# Altium integrated library TI_Logic_Specialty_Logic.IntLib: 2504 symbols (part 27 of 81)
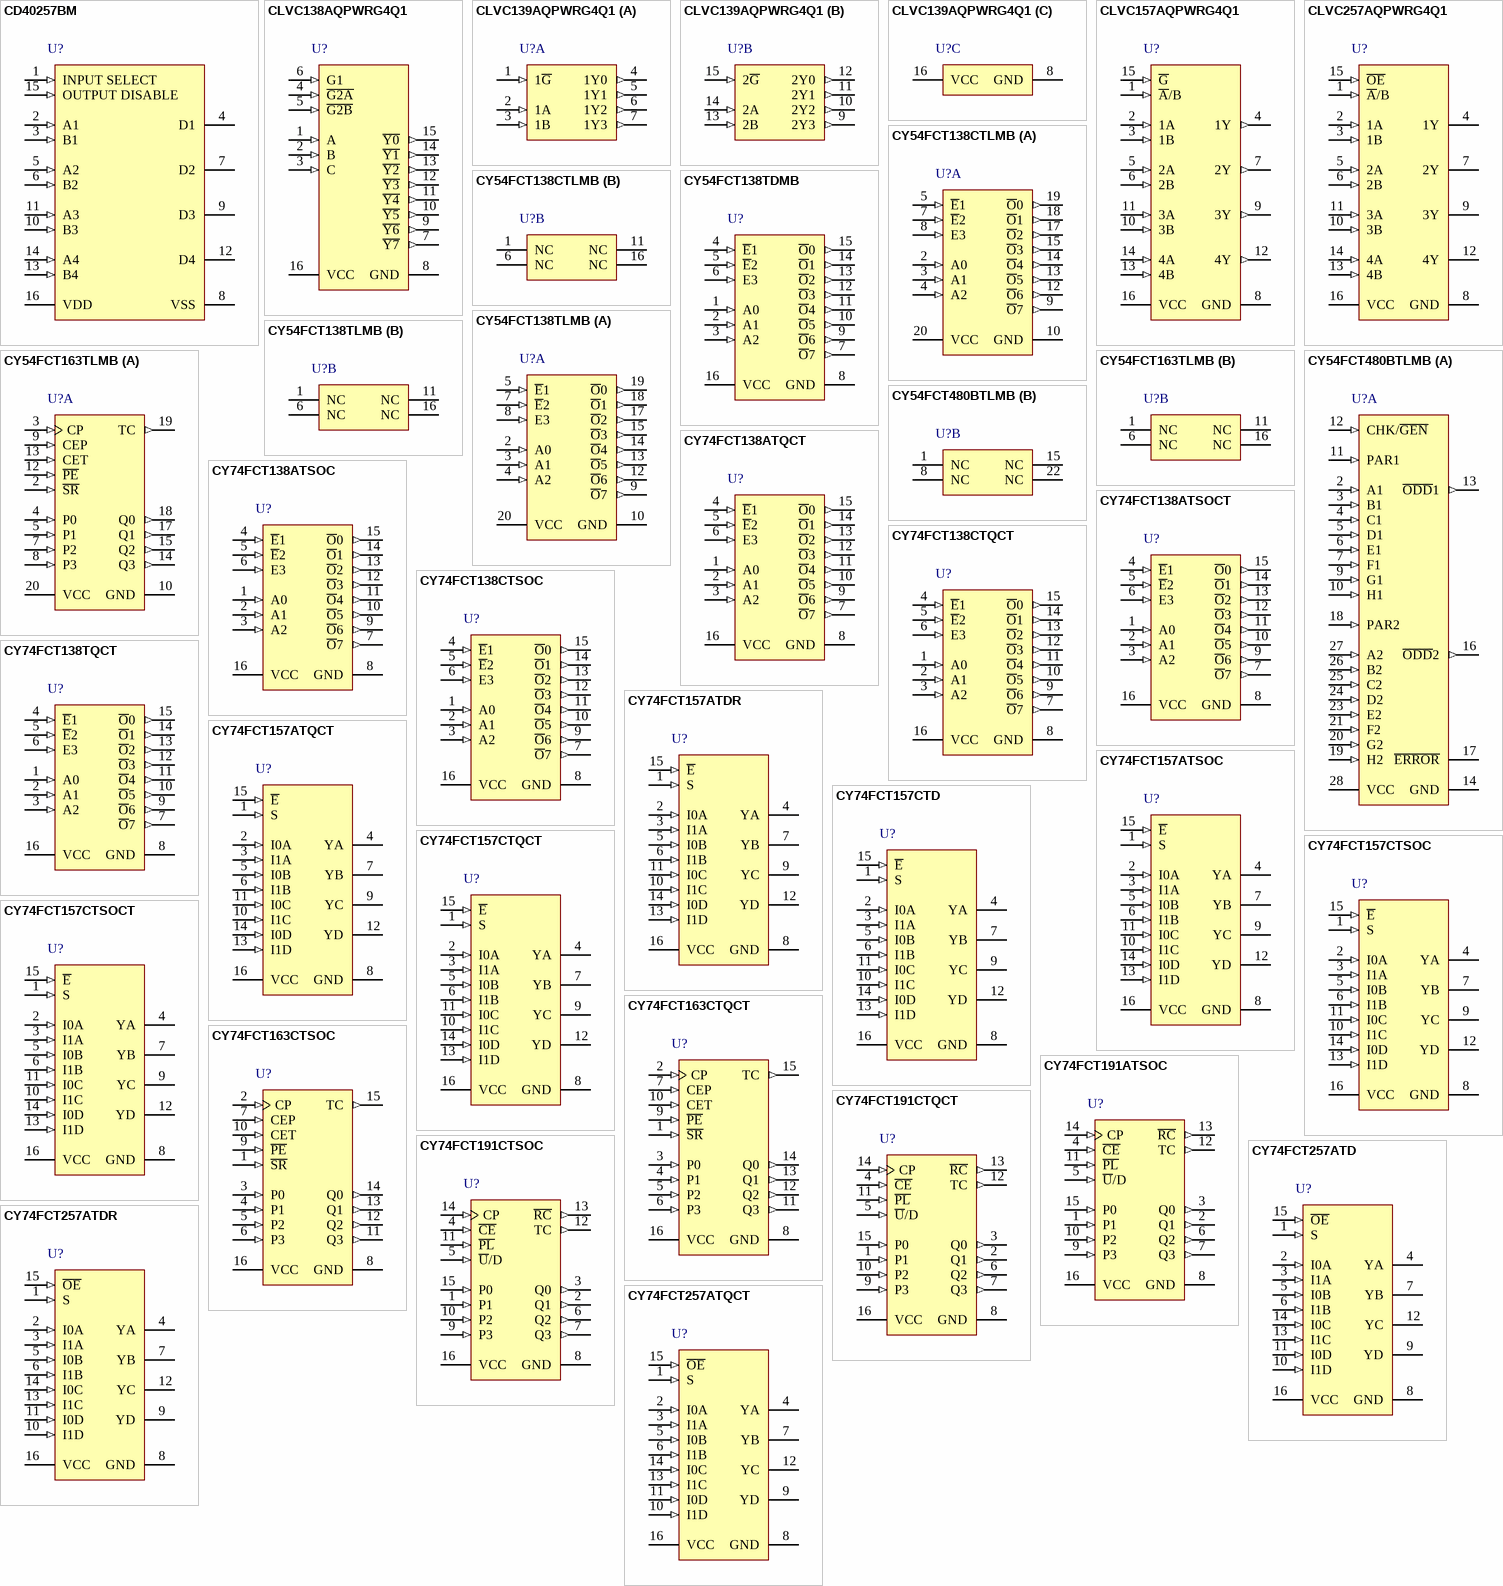
[diagram p130: symbols CD40257BM to CY74FCT257ATQCT]

## CY74FCT157CTSOCT
designator U?
Quad 2-Input Multiplexer, DW0016A, LARGE T&R; Generic Part Number: CY74FCT157T; Manufacturer: Texas Instruments; PartNumber: CY74FCT157CTSOCT; VCC(Min)(V): 4.75; VCC(Max)(V): 5.25; Output Type: CMOS; ICC @ Nom Voltage(Max)(mA): 0.2; Input Type: TTL; Bits(#): 2; F @ Nom Voltage(Max)(Mhz): 70; Configuration: 2：1; Channels(#): 4; Rating: Catalog; Technology Family: FCT; Voltage(Nom)(V): 5; Schmitt Trigger: No; Output Drive (IOL/IOH)(Max)(mA): 64/-32; tpd @ Nom Voltage(Max)(ns): 4.3; DatasheetVersion: SCCS014B; PackageReference: DW0016A; Supplier 1: Mouser; Supplier Part Number 1: 595-CY74FCT157CTSOCT; Supplier 2: Digi-Key; Supplier Part Number 2: 296-31625-2-ND; Supplier 3: Digi-Key; Supplier Part Number 3: 296-31625-1-ND; Supplier 4: Digi-Key; Supplier Part Number 4: 296-31625-6-ND; Operating Temperature Range(C): -40 to 85; Code_JEDEC: MS-013 variation AA; ComponentLink1Description: Manufacturer URL; ComponentLink1URL: http://www.ti.com/; ComponentLink2Description: Datasheet; ComponentLink2URL: http://www.ti.com/lit/ds/symlink/cy74fct157t.pdf; ComponentLink3Description: Package Specification; ComponentLink3URL: http://www.ti.com/lit/ml/msoi003g/msoi003g.pdf
footprint DW0016A_N (SOIC, 16-Leads, Body 10.5x7.6mm, Pitch 1.27mm, IPC Medium Density)
footprint DW0016A_M (SOIC, 16-Leads, Body 10.5x7.6mm, Pitch 1.27mm, IPC Low Density)
footprint DW0016A_L (SOIC, 16-Leads, Body 10.5x7.6mm, Pitch 1.27mm, IPC High Density)
pins: 1 S (in) "Common select input", 2 I0A (in) "Data inputs from source 0", 3 I1A (in) "Data inputs from source 1", 4 YA (hiz) "Noninverted outputs", 5 I0B (in) "Data inputs from source 0", 6 I1B (in) "Data inputs from source 1", 7 YB (hiz) "Noninverted outputs", 8 GND (power), 9 YC (hiz) "Noninverted outputs", 10 I1C (in) "Data inputs from source 1", 11 I0C (in) "Data inputs from source 0", 12 YD (hiz) "Noninverted outputs", 13 I1D (in) "Data inputs from source 1", 14 I0D (in) "Data inputs from source 0", 15 ~{E} (in) "Enable inputs (active low)", 16 VCC (power)

## CY74FCT163CTQCT
designator U?
Synchronous 4-Bit Binary Counter, DBQ0016A, LARGE T&R; Generic Part Number: CY74FCT163T; Manufacturer: Texas Instruments; PartNumber: CY74FCT163CTQCT; VCC(Min)(V): 4.75; VCC(Max)(V): 5.25; Output Type: CMOS; ICC @ Nom Voltage(Max)(mA): 0.2; Input Type: TTL; Bits(#): 4; F @ Nom Voltage(Max)(Mhz): 70; Rating: Catalog; Technology Family: FCT; Voltage(Nom)(V): 5; Schmitt Trigger: No; Output Drive (IOL/IOH)(Max)(mA): 64/-32; tpd @ Nom Voltage(Max)(ns): 5.8; DatasheetVersion: SCCS015A; PackageReference: DBQ0016A; Supplier 1: Mouser; Supplier Part Number 1: 595-CY74FCT163CTQCT; Supplier 2: Digi-Key; Supplier Part Number 2: 296-14565-2-ND; Supplier 3: Digi-Key; Supplier Part Number 3: 296-14565-1-ND; Supplier 4: Digi-Key; Supplier Part Number 4: 296-14565-6-ND; Operating Temperature Range(C): -40 to 85; ComponentLink1Description: Manufacturer URL; ComponentLink1URL: http://www.ti.com/; ComponentLink2Description: Datasheet; ComponentLink2URL: http://www.ti.com/lit/ds/symlink/cy74fct163t.pdf; ComponentLink3Description: Package Specification; ComponentLink3URL: http://www.ti.com/lit/ml/msoi004g/msoi004g.pdf
footprint DBQ0016A_N (SOP, 16-Leads, Body 5x4mm, Pitch 0.635mm, IPC Medium Density)
footprint DBQ0016A_M (SOP, 16-Leads, Body 5x4mm, Pitch 0.635mm, IPC Low Density)
footprint DBQ0016A_L (SOP, 16-Leads, Body 5x4mm, Pitch 0.635mm, IPC High Density)
pins: 1 ~{SR} (in) "Synchronous-reset input (active low)", 2 CP (in) "Clock pulse input (active rising edge)", 3 P0 (in) "Parallel data inputs", 4 P1 (in) "Parallel data inputs", 5 P2 (in) "Parallel data inputs", 6 P3 (in) "Parallel data inputs", 7 CEP (in) "Count-enable parallel input", 8 GND (power), 9 ~{PE} (in) "Parallel-enable input (active low)", 10 CET (in) "Count-enable trickle input", 11 Q3 (out) "Flip-flop outputs", 12 Q2 (out) "Flip-flop outputs", 13 Q1 (out) "Flip-flop outputs", 14 Q0 (out) "Flip-flop outputs", 15 TC (out) "Terminal-count output", 16 VCC (power)

## CY74FCT163CTSOC
designator U?
Synchronous 4-Bit Binary Counter, DW0016A, TUBE; Generic Part Number: CY74FCT163T; Manufacturer: Texas Instruments; PartNumber: CY74FCT163CTSOC; VCC(Min)(V): 4.75; VCC(Max)(V): 5.25; Output Type: CMOS; ICC @ Nom Voltage(Max)(mA): 0.2; Input Type: TTL; Bits(#): 4; F @ Nom Voltage(Max)(Mhz): 70; Rating: Catalog; Technology Family: FCT; Voltage(Nom)(V): 5; Schmitt Trigger: No; Output Drive (IOL/IOH)(Max)(mA): 64/-32; tpd @ Nom Voltage(Max)(ns): 5.8; DatasheetVersion: SCCS015A; PackageReference: DW0016A; Supplier 1: Mouser; Supplier Part Number 1: 595-CY74FCT163CTSOC; Supplier 2: Digi-Key; Supplier Part Number 2: 296-33200-5-ND; Operating Temperature Range(C): -40 to 85; Code_JEDEC: MS-013 variation AA; ComponentLink1Description: Manufacturer URL; ComponentLink1URL: http://www.ti.com/; ComponentLink2Description: Datasheet; ComponentLink2URL: http://www.ti.com/lit/ds/symlink/cy74fct163t.pdf; ComponentLink3Description: Package Specification; ComponentLink3URL: http://www.ti.com/lit/ml/msoi003g/msoi003g.pdf
footprint DW0016A_N (SOIC, 16-Leads, Body 10.5x7.6mm, Pitch 1.27mm, IPC Medium Density)
footprint DW0016A_M (SOIC, 16-Leads, Body 10.5x7.6mm, Pitch 1.27mm, IPC Low Density)
footprint DW0016A_L (SOIC, 16-Leads, Body 10.5x7.6mm, Pitch 1.27mm, IPC High Density)
pins: 1 ~{SR} (in) "Synchronous-reset input (active low)", 2 CP (in) "Clock pulse input (active rising edge)", 3 P0 (in) "Parallel data inputs", 4 P1 (in) "Parallel data inputs", 5 P2 (in) "Parallel data inputs", 6 P3 (in) "Parallel data inputs", 7 CEP (in) "Count-enable parallel input", 8 GND (power), 9 ~{PE} (in) "Parallel-enable input (active low)", 10 CET (in) "Count-enable trickle input", 11 Q3 (out) "Flip-flop outputs", 12 Q2 (out) "Flip-flop outputs", 13 Q1 (out) "Flip-flop outputs", 14 Q0 (out) "Flip-flop outputs", 15 TC (out) "Terminal-count output", 16 VCC (power)

## CY74FCT191ATSOC
designator U?
Presettable Synchronous 4-Bit Up/Down Binary Counters, DW0016A, TUBE; Generic Part Number: CY74FCT191T; Manufacturer: Texas Instruments; PartNumber: CY74FCT191ATSOC; VCC(Min)(V): 4.75; VCC(Max)(V): 5.25; Output Type: CMOS; ICC @ Nom Voltage(Max)(mA): 0.2; Input Type: TTL; Bits(#): 4; F @ Nom Voltage(Max)(Mhz): 70; Rating: Catalog; Technology Family: FCT; Voltage(Nom)(V): 5; Schmitt Trigger: No; Output Drive (IOL/IOH)(Max)(mA): 64/-32; tpd @ Nom Voltage(Max)(ns): 7.8; DatasheetVersion: SCCS016A; PackageReference: DW0016A; Supplier 1: Mouser; Supplier Part Number 1: 595-CY74FCT191ATSOC; Supplier 2: Digi-Key; Supplier Part Number 2: 296-33210-5-ND; Operating Temperature Range(C): -40 to 85; Code_JEDEC: MS-013 variation AA; ComponentLink1Description: Manufacturer URL; ComponentLink1URL: http://www.ti.com/; ComponentLink2Description: Datasheet; ComponentLink2URL: http://www.ti.com/lit/ds/symlink/cy74fct191t.pdf; ComponentLink3Description: Package Specification; ComponentLink3URL: http://www.ti.com/lit/ml/msoi003g/msoi003g.pdf
footprint DW0016A_N (SOIC, 16-Leads, Body 10.5x7.6mm, Pitch 1.27mm, IPC Medium Density)
footprint DW0016A_M (SOIC, 16-Leads, Body 10.5x7.6mm, Pitch 1.27mm, IPC Low Density)
footprint DW0016A_L (SOIC, 16-Leads, Body 10.5x7.6mm, Pitch 1.27mm, IPC High Density)
pins: 1 P1 (in) "Parallel data inputs", 2 Q1 (out) "Flip-flop outputs", 3 Q0 (out) "Flip-flop outputs", 4 ~{CE} (in) "Count enable input (active low)", 5 ~{U}/D (in) "Up/down count control input", 6 Q2 (out) "Flip-flop outputs", 7 Q3 (out) "Flip-flop outputs", 8 GND (power), 9 P3 (in) "Parallel data inputs", 10 P2 (in) "Parallel data inputs", 11 ~{PL} (in) "Asynchronous parallel load input (active low)", 12 TC (out) "Terminal count output", 13 ~{RC} (out) "Ripple clock output (active low)", 14 CP (in) "Clock pulse input (active rising edge)", 15 P0 (in) "Parallel data inputs", 16 VCC (power)

## CY74FCT191CTQCT
designator U?
Presettable Synchronous 4-Bit Up/Down Binary Counters, DBQ0016A, LARGE T&R; Generic Part Number: CY74FCT191T; Manufacturer: Texas Instruments; PartNumber: CY74FCT191CTQCT; VCC(Min)(V): 4.75; VCC(Max)(V): 5.25; Output Type: CMOS; ICC @ Nom Voltage(Max)(mA): 0.2; Input Type: TTL; Bits(#): 4; F @ Nom Voltage(Max)(Mhz): 70; Rating: Catalog; Technology Family: FCT; Voltage(Nom)(V): 5; Schmitt Trigger: No; Output Drive (IOL/IOH)(Max)(mA): 64/-32; tpd @ Nom Voltage(Max)(ns): 6.2; DatasheetVersion: SCCS016A; PackageReference: DBQ0016A; Supplier 1: Mouser; Supplier Part Number 1: 595-CY74FCT191CTQCT; Supplier 2: Digi-Key; Supplier Part Number 2: CY74FCT191CTQCT-ND; Operating Temperature Range(C): -40 to 85; ComponentLink1Description: Manufacturer URL; ComponentLink1URL: http://www.ti.com/; ComponentLink2Description: Datasheet; ComponentLink2URL: http://www.ti.com/lit/ds/symlink/cy74fct191t.pdf; ComponentLink3Description: Package Specification; ComponentLink3URL: http://www.ti.com/lit/ml/msoi004g/msoi004g.pdf
footprint DBQ0016A_N (SOP, 16-Leads, Body 5x4mm, Pitch 0.635mm, IPC Medium Density)
footprint DBQ0016A_M (SOP, 16-Leads, Body 5x4mm, Pitch 0.635mm, IPC Low Density)
footprint DBQ0016A_L (SOP, 16-Leads, Body 5x4mm, Pitch 0.635mm, IPC High Density)
pins: 1 P1 (in) "Parallel data inputs", 2 Q1 (out) "Flip-flop outputs", 3 Q0 (out) "Flip-flop outputs", 4 ~{CE} (in) "Count enable input (active low)", 5 ~{U}/D (in) "Up/down count control input", 6 Q2 (out) "Flip-flop outputs", 7 Q3 (out) "Flip-flop outputs", 8 GND (power), 9 P3 (in) "Parallel data inputs", 10 P2 (in) "Parallel data inputs", 11 ~{PL} (in) "Asynchronous parallel load input (active low)", 12 TC (out) "Terminal count output", 13 ~{RC} (out) "Ripple clock output (active low)", 14 CP (in) "Clock pulse input (active rising edge)", 15 P0 (in) "Parallel data inputs", 16 VCC (power)

## CY74FCT191CTSOC
designator U?
Presettable Synchronous 4-Bit Up/Down Binary Counters, DW0016A, TUBE; Generic Part Number: CY74FCT191T; Manufacturer: Texas Instruments; PartNumber: CY74FCT191CTSOC; VCC(Min)(V): 4.75; VCC(Max)(V): 5.25; Output Type: CMOS; ICC @ Nom Voltage(Max)(mA): 0.2; Input Type: TTL; Bits(#): 4; F @ Nom Voltage(Max)(Mhz): 70; Rating: Catalog; Technology Family: FCT; Voltage(Nom)(V): 5; Schmitt Trigger: No; Output Drive (IOL/IOH)(Max)(mA): 64/-32; tpd @ Nom Voltage(Max)(ns): 6.2; DatasheetVersion: SCCS016A; PackageReference: DW0016A; Supplier 1: Mouser; Supplier Part Number 1: 595-CY74FCT191CTSOC; Supplier 2: Digi-Key; Supplier Part Number 2: CY74FCT191CTSOC-ND; Operating Temperature Range(C): -40 to 85; Code_JEDEC: MS-013 variation AA; ComponentLink1Description: Manufacturer URL; ComponentLink1URL: http://www.ti.com/; ComponentLink2Description: Datasheet; ComponentLink2URL: http://www.ti.com/lit/ds/symlink/cy74fct191t.pdf; ComponentLink3Description: Package Specification; ComponentLink3URL: http://www.ti.com/lit/ml/msoi003g/msoi003g.pdf
footprint DW0016A_N (SOIC, 16-Leads, Body 10.5x7.6mm, Pitch 1.27mm, IPC Medium Density)
footprint DW0016A_M (SOIC, 16-Leads, Body 10.5x7.6mm, Pitch 1.27mm, IPC Low Density)
footprint DW0016A_L (SOIC, 16-Leads, Body 10.5x7.6mm, Pitch 1.27mm, IPC High Density)
pins: 1 P1 (in) "Parallel data inputs", 2 Q1 (out) "Flip-flop outputs", 3 Q0 (out) "Flip-flop outputs", 4 ~{CE} (in) "Count enable input (active low)", 5 ~{U}/D (in) "Up/down count control input", 6 Q2 (out) "Flip-flop outputs", 7 Q3 (out) "Flip-flop outputs", 8 GND (power), 9 P3 (in) "Parallel data inputs", 10 P2 (in) "Parallel data inputs", 11 ~{PL} (in) "Asynchronous parallel load input (active low)", 12 TC (out) "Terminal count output", 13 ~{RC} (out) "Ripple clock output (active low)", 14 CP (in) "Clock pulse input (active rising edge)", 15 P0 (in) "Parallel data inputs", 16 VCC (power)

## CY74FCT257ATD
designator U?
Quadruple 1-of-2 Data Selectors/Multiplexers with 3-State Outputs, D0016A, TUBE; Generic Part Number: CY74FCT257T; Manufacturer: Texas Instruments; PartNumber: CY74FCT257ATD; VCC(Min)(V): 4.75; VCC(Max)(V): 5.25; Output Type: CMOS; ICC @ Nom Voltage(Max)(mA): 0.2; Input Type: TTL; Bits(#): 2; F @ Nom Voltage(Max)(Mhz): 70; Configuration: 2：1; Channels(#): 4; Rating: Catalog; Technology Family: FCT; Voltage(Nom)(V): 5; Schmitt Trigger: No; Output Drive (IOL/IOH)(Max)(mA): 64/-32; DatasheetVersion: SCCS019D; PackageReference: D0016A; Supplier 1: Mouser; Supplier Part Number 1: 595-CY74FCT257ATD; Supplier 2: Digi-Key; Supplier Part Number 2: 296-33227-5-ND; Operating Temperature Range(C): -40 to 85; tpd @ Nom Voltage(Max)(ns): 5; Code_JEDEC: MS-012 variation AC; ComponentLink1Description: Manufacturer URL; ComponentLink1URL: http://www.ti.com/; ComponentLink2Description: Datasheet; ComponentLink2URL: http://www.ti.com/lit/ds/symlink/cy74fct257t.pdf; ComponentLink3Description: Package Specification; ComponentLink3URL: http://www.ti.com/lit/ml/mpds178g/mpds178g.pdf
footprint D0016A_N (SOIC, 16-Leads, Body 10x4mm, Pitch 1.27mm, IPC Medium Density)
footprint D0016A_M (SOIC, 16-Leads, Body 10x4mm, Pitch 1.27mm, IPC Low Density)
footprint D0016A_L (SOIC, 16-Leads, Body 10x4mm, Pitch 1.27mm, IPC High Density)
pins: 1 S (in) "Common data-select input", 2 I0A (in) "Data inputs", 3 I1A (in) "Data inputs", 4 YA (hiz) "Data outputs", 5 I0B (in) "Data inputs", 6 I1B (in) "Data inputs", 7 YB (hiz) "Data outputs", 8 GND (power), 9 YD (hiz) "Data outputs", 10 I1D (in) "Data inputs", 11 I0D (in) "Data inputs", 12 YC (hiz) "Data outputs", 13 I1C (in) "Data inputs", 14 I0C (in) "Data inputs", 15 ~{OE} (in) "Output-enable input (active low)", 16 VCC (power)

## CY74FCT257ATDR
designator U?
Quadruple 1-of-2 Data Selectors/Multiplexers with 3-State Outputs, D0016A, LARGE T&R; Generic Part Number: CY74FCT257T; Manufacturer: Texas Instruments; PartNumber: CY74FCT257ATDR; VCC(Min)(V): 4.75; VCC(Max)(V): 5.25; Output Type: CMOS; ICC @ Nom Voltage(Max)(mA): 0.2; Input Type: TTL; Bits(#): 2; F @ Nom Voltage(Max)(Mhz): 70; Configuration: 2：1; Channels(#): 4; Rating: Catalog; Technology Family: FCT; Voltage(Nom)(V): 5; Schmitt Trigger: No; Output Drive (IOL/IOH)(Max)(mA): 64/-32; DatasheetVersion: SCCS019D; PackageReference: D0016A; Supplier 1: Mouser; Supplier Part Number 1: 595-CY74FCT257ATDR; Supplier 2: Digi-Key; Supplier Part Number 2: CY74FCT257ATDR-ND; Operating Temperature Range(C): -40 to 85; tpd @ Nom Voltage(Max)(ns): 5; Code_JEDEC: MS-012 variation AC; ComponentLink1Description: Manufacturer URL; ComponentLink1URL: http://www.ti.com/; ComponentLink2Description: Datasheet; ComponentLink2URL: http://www.ti.com/lit/ds/symlink/cy74fct257t.pdf; ComponentLink3Description: Package Specification; ComponentLink3URL: http://www.ti.com/lit/ml/mpds178g/mpds178g.pdf
footprint D0016A_N (SOIC, 16-Leads, Body 10x4mm, Pitch 1.27mm, IPC Medium Density)
footprint D0016A_M (SOIC, 16-Leads, Body 10x4mm, Pitch 1.27mm, IPC Low Density)
footprint D0016A_L (SOIC, 16-Leads, Body 10x4mm, Pitch 1.27mm, IPC High Density)
pins: 1 S (in) "Common data-select input", 2 I0A (in) "Data inputs", 3 I1A (in) "Data inputs", 4 YA (hiz) "Data outputs", 5 I0B (in) "Data inputs", 6 I1B (in) "Data inputs", 7 YB (hiz) "Data outputs", 8 GND (power), 9 YD (hiz) "Data outputs", 10 I1D (in) "Data inputs", 11 I0D (in) "Data inputs", 12 YC (hiz) "Data outputs", 13 I1C (in) "Data inputs", 14 I0C (in) "Data inputs", 15 ~{OE} (in) "Output-enable input (active low)", 16 VCC (power)

## CY74FCT257ATQCT
designator U?
Quadruple 1-of-2 Data Selectors/Multiplexers with 3-State Outputs, DBQ0016A, LARGE T&R; Generic Part Number: CY74FCT257T; Manufacturer: Texas Instruments; PartNumber: CY74FCT257ATQCT; VCC(Min)(V): 4.75; VCC(Max)(V): 5.25; Output Type: CMOS; ICC @ Nom Voltage(Max)(mA): 0.2; Input Type: TTL; Bits(#): 2; F @ Nom Voltage(Max)(Mhz): 70; Configuration: 2：1; Channels(#): 4; Rating: Catalog; Technology Family: FCT; Voltage(Nom)(V): 5; Schmitt Trigger: No; Output Drive (IOL/IOH)(Max)(mA): 64/-32; DatasheetVersion: SCCS019D; PackageReference: DBQ0016A; Supplier 1: Mouser; Supplier Part Number 1: 595-CY74FCT257ATQCT; Supplier 2: Digi-Key; Supplier Part Number 2: 296-13620-2-ND; Supplier 3: Digi-Key; Supplier Part Number 3: 296-13620-1-ND; Supplier 4: Digi-Key; Supplier Part Number 4: 296-13620-6-ND; Operating Temperature Range(C): -40 to 85; tpd @ Nom Voltage(Max)(ns): 5; ComponentLink1Description: Manufacturer URL; ComponentLink1URL: http://www.ti.com/; ComponentLink2Description: Datasheet; ComponentLink2URL: http://www.ti.com/lit/ds/symlink/cy74fct257t.pdf; ComponentLink3Description: Package Specification; ComponentLink3URL: http://www.ti.com/lit/ml/msoi004g/msoi004g.pdf
footprint DBQ0016A_N (SOP, 16-Leads, Body 5x4mm, Pitch 0.635mm, IPC Medium Density)
footprint DBQ0016A_M (SOP, 16-Leads, Body 5x4mm, Pitch 0.635mm, IPC Low Density)
footprint DBQ0016A_L (SOP, 16-Leads, Body 5x4mm, Pitch 0.635mm, IPC High Density)
pins: 1 S (in) "Common data-select input", 2 I0A (in) "Data inputs", 3 I1A (in) "Data inputs", 4 YA (hiz) "Data outputs", 5 I0B (in) "Data inputs", 6 I1B (in) "Data inputs", 7 YB (hiz) "Data outputs", 8 GND (power), 9 YD (hiz) "Data outputs", 10 I1D (in) "Data inputs", 11 I0D (in) "Data inputs", 12 YC (hiz) "Data outputs", 13 I1C (in) "Data inputs", 14 I0C (in) "Data inputs", 15 ~{OE} (in) "Output-enable input (active low)", 16 VCC (power)

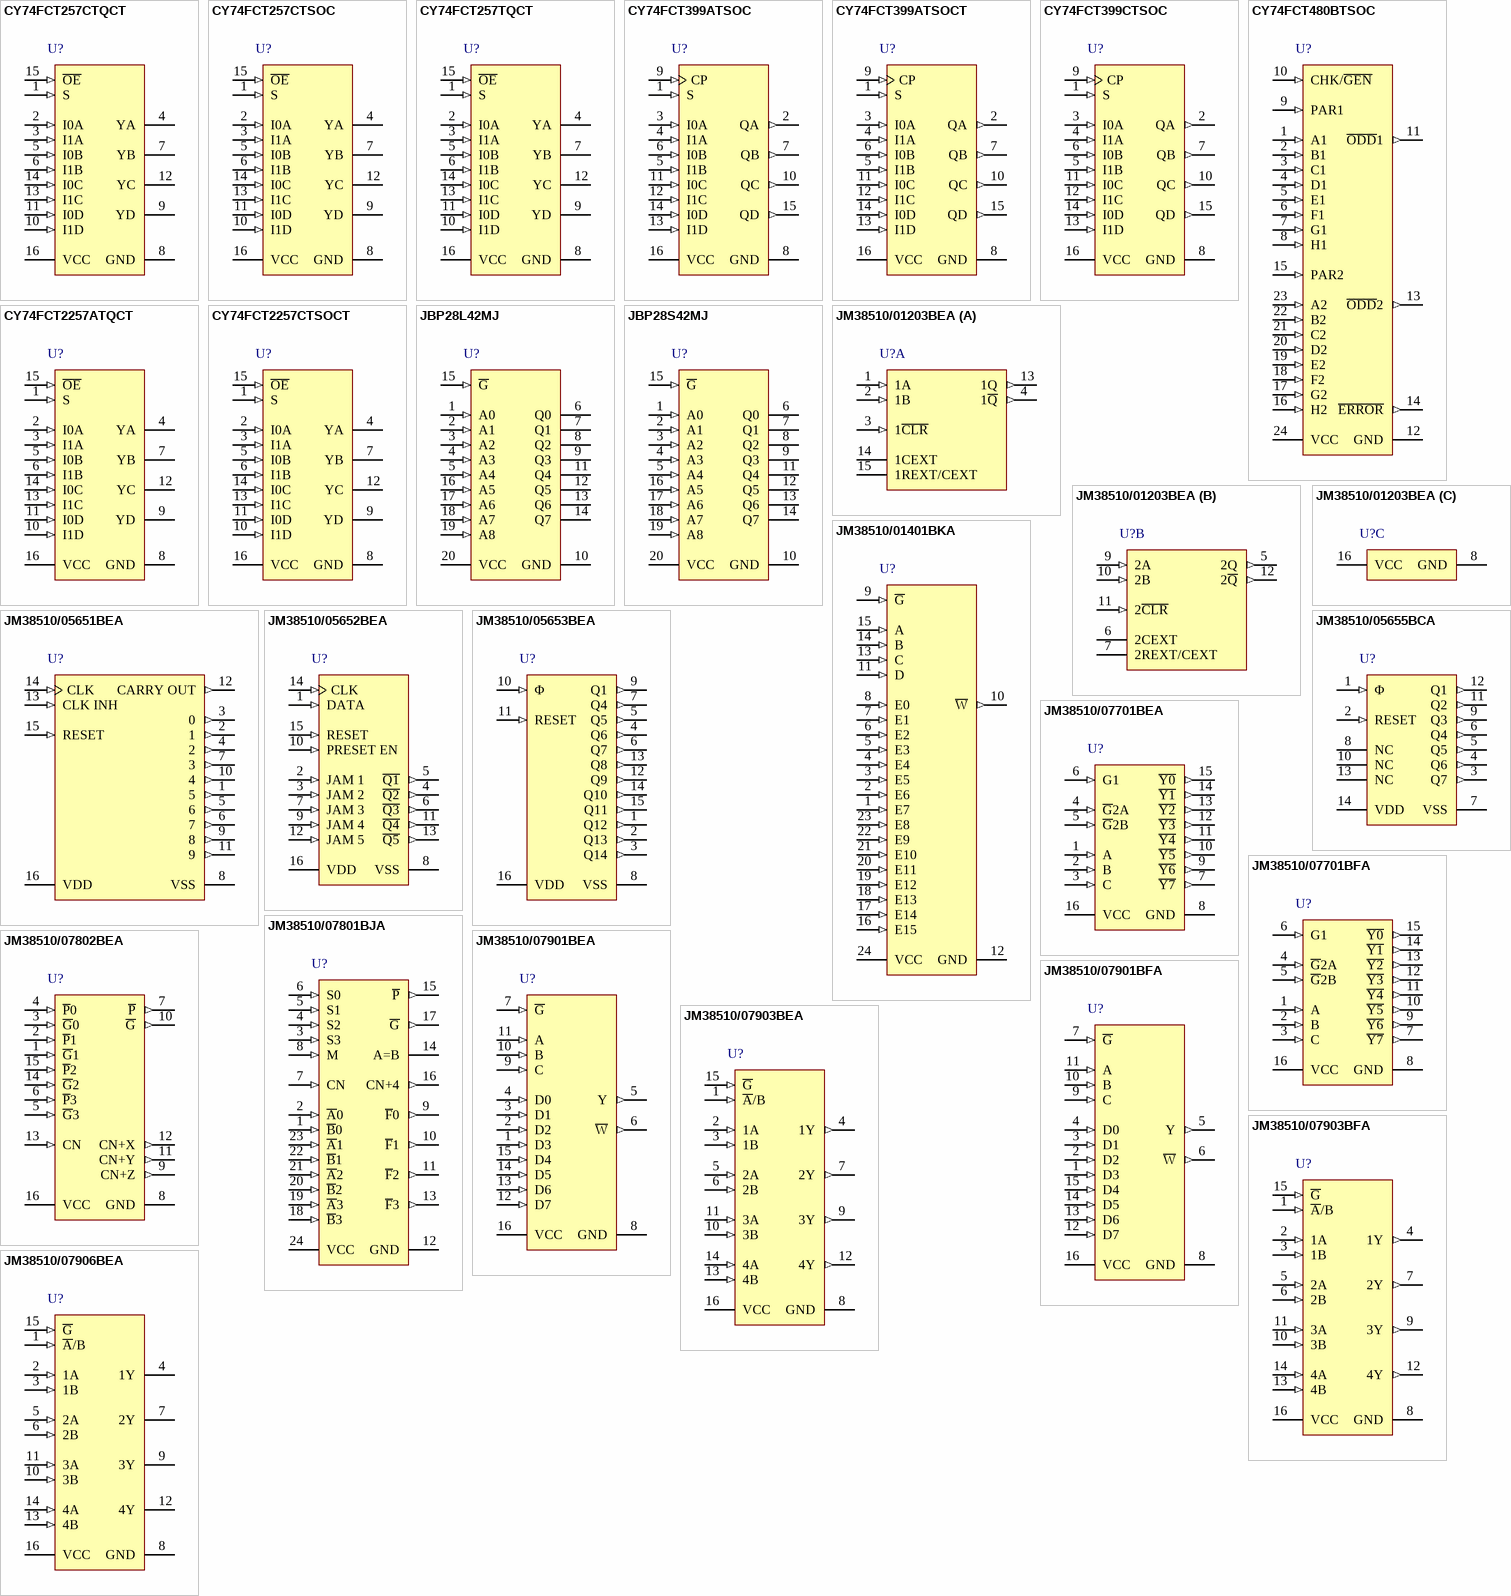
[diagram p36: symbols CY74FCT257CTQCT to JM38510/07906BEA]

## CY74FCT257CTQCT
designator U?
Quadruple 1-of-2 Data Selectors/Multiplexers with 3-State Outputs, DBQ0016A, LARGE T&R; Generic Part Number: CY74FCT257T; Manufacturer: Texas Instruments; PartNumber: CY74FCT257CTQCT; VCC(Min)(V): 4.75; VCC(Max)(V): 5.25; Output Type: CMOS; ICC @ Nom Voltage(Max)(mA): 0.2; Input Type: TTL; Bits(#): 2; F @ Nom Voltage(Max)(Mhz): 70; Configuration: 2：1; Channels(#): 4; Rating: Catalog; Technology Family: FCT; Voltage(Nom)(V): 5; Schmitt Trigger: No; Output Drive (IOL/IOH)(Max)(mA): 64/-32; tpd @ Nom Voltage(Max)(ns): 4.3; DatasheetVersion: SCCS019D; PackageReference: DBQ0016A; Supplier 1: Mouser; Supplier Part Number 1: 595-CY74FCT257CTQCT; Supplier 2: Digi-Key; Supplier Part Number 2: CY74FCT257CTQCT-ND; Operating Temperature Range(C): -40 to 85; ComponentLink1Description: Manufacturer URL; ComponentLink1URL: http://www.ti.com/; ComponentLink2Description: Datasheet; ComponentLink2URL: http://www.ti.com/lit/ds/symlink/cy74fct257t.pdf; ComponentLink3Description: Package Specification; ComponentLink3URL: http://www.ti.com/lit/ml/msoi004g/msoi004g.pdf
footprint DBQ0016A_N (SOP, 16-Leads, Body 5x4mm, Pitch 0.635mm, IPC Medium Density)
footprint DBQ0016A_M (SOP, 16-Leads, Body 5x4mm, Pitch 0.635mm, IPC Low Density)
footprint DBQ0016A_L (SOP, 16-Leads, Body 5x4mm, Pitch 0.635mm, IPC High Density)
pins: 1 S (in) "Common data-select input", 2 I0A (in) "Data inputs", 3 I1A (in) "Data inputs", 4 YA (hiz) "Data outputs", 5 I0B (in) "Data inputs", 6 I1B (in) "Data inputs", 7 YB (hiz) "Data outputs", 8 GND (power), 9 YD (hiz) "Data outputs", 10 I1D (in) "Data inputs", 11 I0D (in) "Data inputs", 12 YC (hiz) "Data outputs", 13 I1C (in) "Data inputs", 14 I0C (in) "Data inputs", 15 ~{OE} (in) "Output-enable input (active low)", 16 VCC (power)

## CY74FCT257CTSOC
designator U?
Quadruple 1-of-2 Data Selectors/Multiplexers with 3-State Outputs, DW0016A, TUBE; Generic Part Number: CY74FCT257T; Manufacturer: Texas Instruments; PartNumber: CY74FCT257CTSOC; VCC(Min)(V): 4.75; VCC(Max)(V): 5.25; Output Type: CMOS; ICC @ Nom Voltage(Max)(mA): 0.2; Input Type: TTL; Bits(#): 2; F @ Nom Voltage(Max)(Mhz): 70; Configuration: 2：1; Channels(#): 4; Rating: Catalog; Technology Family: FCT; Voltage(Nom)(V): 5; Schmitt Trigger: No; Output Drive (IOL/IOH)(Max)(mA): 64/-32; tpd @ Nom Voltage(Max)(ns): 4.3; DatasheetVersion: SCCS019D; PackageReference: DW0016A; Supplier 1: Mouser; Supplier Part Number 1: 595-CY74FCT257CTSOC; Supplier 2: Digi-Key; Supplier Part Number 2: 296-33228-5-ND; Operating Temperature Range(C): -40 to 85; Code_JEDEC: MS-013 variation AA; ComponentLink1Description: Manufacturer URL; ComponentLink1URL: http://www.ti.com/; ComponentLink2Description: Datasheet; ComponentLink2URL: http://www.ti.com/lit/ds/symlink/cy74fct257t.pdf; ComponentLink3Description: Package Specification; ComponentLink3URL: http://www.ti.com/lit/ml/msoi003g/msoi003g.pdf
footprint DW0016A_N (SOIC, 16-Leads, Body 10.5x7.6mm, Pitch 1.27mm, IPC Medium Density)
footprint DW0016A_M (SOIC, 16-Leads, Body 10.5x7.6mm, Pitch 1.27mm, IPC Low Density)
footprint DW0016A_L (SOIC, 16-Leads, Body 10.5x7.6mm, Pitch 1.27mm, IPC High Density)
pins: 1 S (in) "Common data-select input", 2 I0A (in) "Data inputs", 3 I1A (in) "Data inputs", 4 YA (hiz) "Data outputs", 5 I0B (in) "Data inputs", 6 I1B (in) "Data inputs", 7 YB (hiz) "Data outputs", 8 GND (power), 9 YD (hiz) "Data outputs", 10 I1D (in) "Data inputs", 11 I0D (in) "Data inputs", 12 YC (hiz) "Data outputs", 13 I1C (in) "Data inputs", 14 I0C (in) "Data inputs", 15 ~{OE} (in) "Output-enable input (active low)", 16 VCC (power)

## CY74FCT257TQCT
designator U?
Quadruple 1-of-2 Data Selectors/Multiplexers with 3-State Outputs, DBQ0016A, LARGE T&R; Generic Part Number: CY74FCT257T; Manufacturer: Texas Instruments; PartNumber: CY74FCT257TQCT; VCC(Min)(V): 4.75; VCC(Max)(V): 5.25; Output Type: CMOS; Function: Encoder/Multiplexer; ICC @ Nom Voltage(Max)(mA): 0.2; Input Type: TTL; F @ Nom Voltage(Max)(Mhz): 70; Configuration: 2：1; Channels(#): 4; Rating: Catalog; Technology Family: FCT; Voltage(Nom)(V): 5; Schmitt Trigger: No; Output Drive (IOL/IOH)(Max)(mA): 64/-32; tpd @ Nom Voltage(Max)(ns): 7; DatasheetVersion: SCCS019D; PackageReference: DBQ0016A; Supplier 1: Mouser; Supplier Part Number 1: 595-CY74FCT257TQCT; Supplier 2: Digi-Key; Supplier Part Number 2: 296-31637-2-ND; Supplier 3: Digi-Key; Supplier Part Number 3: 296-31637-1-ND; Supplier 4: Digi-Key; Supplier Part Number 4: 296-31637-6-ND; Operating Temperature Range(C): -40 to 85; Type: 3-State Output; ComponentLink1Description: Manufacturer URL; ComponentLink1URL: http://www.ti.com/; ComponentLink2Description: Datasheet; ComponentLink2URL: http://www.ti.com/lit/ds/symlink/cy74fct257t.pdf; ComponentLink3Description: Package Specification; ComponentLink3URL: http://www.ti.com/lit/ml/msoi004g/msoi004g.pdf
footprint DBQ0016A_N (SOP, 16-Leads, Body 5x4mm, Pitch 0.635mm, IPC Medium Density)
footprint DBQ0016A_M (SOP, 16-Leads, Body 5x4mm, Pitch 0.635mm, IPC Low Density)
footprint DBQ0016A_L (SOP, 16-Leads, Body 5x4mm, Pitch 0.635mm, IPC High Density)
pins: 1 S (in) "Common data-select input", 2 I0A (in) "Data inputs", 3 I1A (in) "Data inputs", 4 YA (hiz) "Data outputs", 5 I0B (in) "Data inputs", 6 I1B (in) "Data inputs", 7 YB (hiz) "Data outputs", 8 GND (power), 9 YD (hiz) "Data outputs", 10 I1D (in) "Data inputs", 11 I0D (in) "Data inputs", 12 YC (hiz) "Data outputs", 13 I1C (in) "Data inputs", 14 I0C (in) "Data inputs", 15 ~{OE} (in) "Output-enable input (active low)", 16 VCC (power)

## CY74FCT399ATSOC
designator U?
Quadruple 2-Input Multiplexers with Storage, DW0016A, TUBE; Generic Part Number: CY74FCT399T; Manufacturer: Texas Instruments; PartNumber: CY74FCT399ATSOC; VCC(Min)(V): 4.75; VCC(Max)(V): 5.25; Output Type: CMOS; ICC @ Nom Voltage(Max)(mA): 0.2; Input Type: TTL; Bits(#): 2; F @ Nom Voltage(Max)(Mhz): 70; Configuration: 2：1; Channels(#): 4; Rating: Catalog; Technology Family: FCT; Voltage(Nom)(V): 5; Schmitt Trigger: No; Output Drive (IOL/IOH)(Max)(mA): 64/-32; tpd @ Nom Voltage(Max)(ns): 6.1; DatasheetVersion: SCCS024A; PackageReference: DW0016A; Supplier 1: Mouser; Supplier Part Number 1: 595-CY74FCT399ATSOC; Supplier 2: Digi-Key; Supplier Part Number 2: CY74FCT399ATSOC-ND; Operating Temperature Range(C): -40 to 85; Code_JEDEC: MS-013 variation AA; ComponentLink1Description: Manufacturer URL; ComponentLink1URL: http://www.ti.com/; ComponentLink2Description: Datasheet; ComponentLink2URL: http://www.ti.com/lit/ds/symlink/cy74fct399t.pdf; ComponentLink3Description: Package Specification; ComponentLink3URL: http://www.ti.com/lit/ml/msoi003g/msoi003g.pdf
footprint DW0016A_N (SOIC, 16-Leads, Body 10.5x7.6mm, Pitch 1.27mm, IPC Medium Density)
footprint DW0016A_M (SOIC, 16-Leads, Body 10.5x7.6mm, Pitch 1.27mm, IPC Low Density)
footprint DW0016A_L (SOIC, 16-Leads, Body 10.5x7.6mm, Pitch 1.27mm, IPC High Density)
pins: 1 S (in) "Common select input", 2 QA (out) "Register noninverted outputs", 3 I0A (in) "Data inputs from source 0", 4 I1A (in) "Data inputs from source 1", 5 I1B (in) "Data inputs from source 1", 6 I0B (in) "Data inputs from source 0", 7 QB (out) "Register noninverted outputs", 8 GND (power), 9 CP (in) "Clock-pulse input (active rising edge)", 10 QC (out) "Register noninverted outputs", 11 I0C (in) "Data inputs from source 0", 12 I1C (in) "Data inputs from source 1", 13 I1D (in) "Data inputs from source 1", 14 I0D (in) "Data inputs from source 0", 15 QD (out) "Register noninverted outputs", 16 VCC (power)

## CY74FCT399ATSOCT
designator U?
Quadruple 2-Input Multiplexers with Storage, DW0016A, LARGE T&R; Generic Part Number: CY74FCT399T; Manufacturer: Texas Instruments; PartNumber: CY74FCT399ATSOCT; VCC(Min)(V): 4.75; VCC(Max)(V): 5.25; Output Type: CMOS; ICC @ Nom Voltage(Max)(mA): 0.2; Input Type: TTL; Bits(#): 2; F @ Nom Voltage(Max)(Mhz): 70; Configuration: 2：1; Channels(#): 4; Rating: Catalog; Technology Family: FCT; Voltage(Nom)(V): 5; Schmitt Trigger: No; Output Drive (IOL/IOH)(Max)(mA): 64/-32; tpd @ Nom Voltage(Max)(ns): 6.1; DatasheetVersion: SCCS024A; PackageReference: DW0016A; Supplier 1: Mouser; Supplier Part Number 1: 595-CY74FCT399ATSOCT; Supplier 2: Digi-Key; Supplier Part Number 2: CY74FCT399ATSOCT-ND; Operating Temperature Range(C): -40 to 85; Code_JEDEC: MS-013 variation AA; ComponentLink1Description: Manufacturer URL; ComponentLink1URL: http://www.ti.com/; ComponentLink2Description: Datasheet; ComponentLink2URL: http://www.ti.com/lit/ds/symlink/cy74fct399t.pdf; ComponentLink3Description: Package Specification; ComponentLink3URL: http://www.ti.com/lit/ml/msoi003g/msoi003g.pdf
footprint DW0016A_N (SOIC, 16-Leads, Body 10.5x7.6mm, Pitch 1.27mm, IPC Medium Density)
footprint DW0016A_M (SOIC, 16-Leads, Body 10.5x7.6mm, Pitch 1.27mm, IPC Low Density)
footprint DW0016A_L (SOIC, 16-Leads, Body 10.5x7.6mm, Pitch 1.27mm, IPC High Density)
pins: 1 S (in) "Common select input", 2 QA (out) "Register noninverted outputs", 3 I0A (in) "Data inputs from source 0", 4 I1A (in) "Data inputs from source 1", 5 I1B (in) "Data inputs from source 1", 6 I0B (in) "Data inputs from source 0", 7 QB (out) "Register noninverted outputs", 8 GND (power), 9 CP (in) "Clock-pulse input (active rising edge)", 10 QC (out) "Register noninverted outputs", 11 I0C (in) "Data inputs from source 0", 12 I1C (in) "Data inputs from source 1", 13 I1D (in) "Data inputs from source 1", 14 I0D (in) "Data inputs from source 0", 15 QD (out) "Register noninverted outputs", 16 VCC (power)

## CY74FCT399CTSOC
designator U?
Quadruple 2-Input Multiplexers with Storage, DW0016A, TUBE; Generic Part Number: CY74FCT399T; Manufacturer: Texas Instruments; PartNumber: CY74FCT399CTSOC; VCC(Min)(V): 4.75; VCC(Max)(V): 5.25; Output Type: CMOS; ICC @ Nom Voltage(Max)(mA): 0.2; Input Type: TTL; Bits(#): 2; F @ Nom Voltage(Max)(Mhz): 70; Configuration: 2：1; Channels(#): 4; Rating: Catalog; Technology Family: FCT; Voltage(Nom)(V): 5; Schmitt Trigger: No; Output Drive (IOL/IOH)(Max)(mA): 64/-32; tpd @ Nom Voltage(Max)(ns): 4.3; DatasheetVersion: SCCS024A; PackageReference: DW0016A; Supplier 1: Mouser; Supplier Part Number 1: 595-CY74FCT399CTSOC; Supplier 2: Digi-Key; Supplier Part Number 2: CY74FCT399CTSOC-ND; Operating Temperature Range(C): -40 to 85; Code_JEDEC: MS-013 variation AA; ComponentLink1Description: Manufacturer URL; ComponentLink1URL: http://www.ti.com/; ComponentLink2Description: Datasheet; ComponentLink2URL: http://www.ti.com/lit/ds/symlink/cy74fct399t.pdf; ComponentLink3Description: Package Specification; ComponentLink3URL: http://www.ti.com/lit/ml/msoi003g/msoi003g.pdf
footprint DW0016A_N (SOIC, 16-Leads, Body 10.5x7.6mm, Pitch 1.27mm, IPC Medium Density)
footprint DW0016A_M (SOIC, 16-Leads, Body 10.5x7.6mm, Pitch 1.27mm, IPC Low Density)
footprint DW0016A_L (SOIC, 16-Leads, Body 10.5x7.6mm, Pitch 1.27mm, IPC High Density)
pins: 1 S (in) "Common select input", 2 QA (out) "Register noninverted outputs", 3 I0A (in) "Data inputs from source 0", 4 I1A (in) "Data inputs from source 1", 5 I1B (in) "Data inputs from source 1", 6 I0B (in) "Data inputs from source 0", 7 QB (out) "Register noninverted outputs", 8 GND (power), 9 CP (in) "Clock-pulse input (active rising edge)", 10 QC (out) "Register noninverted outputs", 11 I0C (in) "Data inputs from source 0", 12 I1C (in) "Data inputs from source 1", 13 I1D (in) "Data inputs from source 1", 14 I0D (in) "Data inputs from source 0", 15 QD (out) "Register noninverted outputs", 16 VCC (power)

## CY74FCT480BTSOC
designator U?
Dual 8-Bit Parity Generator/Checker, DW0024A, TUBE; Generic Part Number: CY74FCT480T; Manufacturer: Texas Instruments; PartNumber: CY74FCT480BTSOC; DatasheetVersion: SCCS025B; PackageReference: DW0024A; Supplier 1: Mouser; Supplier Part Number 1: 595-CY74FCT480BTSOC; Supplier 2: Digi-Key; Supplier Part Number 2: CY74FCT480BTSOC-ND; Code_JEDEC: MS-013; ComponentLink1Description: Manufacturer URL; ComponentLink1URL: http://www.ti.com/; ComponentLink2Description: Datasheet; ComponentLink2URL: http://www.ti.com/lit/ds/symlink/cy74fct480t.pdf; ComponentLink3Description: Package Specification; ComponentLink3URL: http://www.ti.com/lit/ml/mpds174a/mpds174a.pdf
footprint DW0024A_N (SOIC, 24-Leads, Body 15.6x7.6mm, Pitch 1.27mm, IPC Medium Density)
footprint DW0024A_M (SOIC, 24-Leads, Body 15.6x7.6mm, Pitch 1.27mm, IPC Low Density)
footprint DW0024A_L (SOIC, 24-Leads, Body 15.6x7.6mm, Pitch 1.27mm, IPC High Density)
pins: 1 A1 (in), 2 B1 (in), 3 C1 (in), 4 D1 (in), 5 E1 (in), 6 F1 (in), 7 G1 (in), 8 H1 (in), 9 PAR1 (in), 10 CHK/~{GEN} (in), 11 ~{ODD}1 (out), 12 GND (power), 13 ~{ODD}2 (out), 14 ~{ERROR} (out), 15 PAR2 (in), 16 H2 (in), 17 G2 (in), 18 F2 (in), 19 E2 (in), 20 D2 (in), 21 C2 (in), 22 B2 (in), 23 A2 (in), 24 VCC (power)

## CY74FCT2257ATQCT
designator U?
Quadruple 1-of-2 Data Selectors/Multiplexers with 3-State Outputs and Series Damping Resistors, DBQ0016A, LARGE T&R; Generic Part Number: CY74FCT2257T; Manufacturer: Texas Instruments; PartNumber: CY74FCT2257ATQCT; VCC(Min)(V): 4.75; VCC(Max)(V): 5.25; Output Type: CMOS; ICC @ Nom Voltage(Max)(mA): 0.2; Input Type: TTL; Bits(#): 2; F @ Nom Voltage(Max)(Mhz): 70; Configuration: 2：1; Channels(#): 4; Rating: Catalog; Technology Family: FCT; Voltage(Nom)(V): 5; Schmitt Trigger: No; Output Drive (IOL/IOH)(Max)(mA): 12/-15; DatasheetVersion: SCCS038B; PackageReference: DBQ0016A; Supplier 1: Mouser; Supplier Part Number 1: 595-CY74FCT2257ATQCT; Supplier 2: Digi-Key; Supplier Part Number 2: 296-14005-2-ND; Supplier 3: Digi-Key; Supplier Part Number 3: 296-14005-1-ND; Supplier 4: Digi-Key; Supplier Part Number 4: 296-14005-6-ND; Operating Temperature Range(C): -40 to 85; tpd @ Nom Voltage(Max)(ns): 5; ComponentLink1Description: Manufacturer URL; ComponentLink1URL: http://www.ti.com/; ComponentLink2Description: Datasheet; ComponentLink2URL: http://www.ti.com/lit/ds/symlink/cy74fct2257t.pdf; ComponentLink3Description: Package Specification; ComponentLink3URL: http://www.ti.com/lit/ml/msoi004g/msoi004g.pdf
footprint DBQ0016A_N (SOP, 16-Leads, Body 5x4mm, Pitch 0.635mm, IPC Medium Density)
footprint DBQ0016A_M (SOP, 16-Leads, Body 5x4mm, Pitch 0.635mm, IPC Low Density)
footprint DBQ0016A_L (SOP, 16-Leads, Body 5x4mm, Pitch 0.635mm, IPC High Density)
pins: 1 S (in) "Common data-select input", 2 I0A (in) "Data inputs", 3 I1A (in) "Data inputs", 4 YA (hiz) "Data outputs", 5 I0B (in) "Data inputs", 6 I1B (in) "Data inputs", 7 YB (hiz) "Data outputs", 8 GND (power), 9 YD (hiz) "Data outputs", 10 I1D (in) "Data inputs", 11 I0D (in) "Data inputs", 12 YC (hiz) "Data outputs", 13 I1C (in) "Data inputs", 14 I0C (in) "Data inputs", 15 ~{OE} (in) "Output-enable input (active low)", 16 VCC (power)

## CY74FCT2257CTSOCT
designator U?
Quadruple 1-of-2 Data Selectors/Multiplexers with 3-State Outputs and Series Damping Resistors, DW0016A, LARGE T&R; Generic Part Number: CY74FCT2257T; Manufacturer: Texas Instruments; PartNumber: CY74FCT2257CTSOCT; VCC(Min)(V): 4.75; VCC(Max)(V): 5.25; Output Type: CMOS; ICC @ Nom Voltage(Max)(mA): 0.2; Input Type: TTL; Bits(#): 2; F @ Nom Voltage(Max)(Mhz): 70; Configuration: 2：1; Channels(#): 4; Rating: Catalog; Technology Family: FCT; Voltage(Nom)(V): 5; Schmitt Trigger: No; Output Drive (IOL/IOH)(Max)(mA): 12/-15; tpd @ Nom Voltage(Max)(ns): 4.7; DatasheetVersion: SCCS038B; PackageReference: DW0016A; Supplier 1: Mouser; Supplier Part Number 1: 595-Y74FCT2257CTSOCT; Supplier 2: Digi-Key; Supplier Part Number 2: CY74FCT2257CTSOCT-ND; Operating Temperature Range(C): -40 to 85; Code_JEDEC: MS-013 variation AA; ComponentLink1Description: Manufacturer URL; ComponentLink1URL: http://www.ti.com/; ComponentLink2Description: Datasheet; ComponentLink2URL: http://www.ti.com/lit/ds/symlink/cy74fct2257t.pdf; ComponentLink3Description: Package Specification; ComponentLink3URL: http://www.ti.com/lit/ml/msoi003g/msoi003g.pdf
footprint DW0016A_N (SOIC, 16-Leads, Body 10.5x7.6mm, Pitch 1.27mm, IPC Medium Density)
footprint DW0016A_M (SOIC, 16-Leads, Body 10.5x7.6mm, Pitch 1.27mm, IPC Low Density)
footprint DW0016A_L (SOIC, 16-Leads, Body 10.5x7.6mm, Pitch 1.27mm, IPC High Density)
pins: 1 S (in) "Common data-select input", 2 I0A (in) "Data inputs", 3 I1A (in) "Data inputs", 4 YA (hiz) "Data outputs", 5 I0B (in) "Data inputs", 6 I1B (in) "Data inputs", 7 YB (hiz) "Data outputs", 8 GND (power), 9 YD (hiz) "Data outputs", 10 I1D (in) "Data inputs", 11 I0D (in) "Data inputs", 12 YC (hiz) "Data outputs", 13 I1C (in) "Data inputs", 14 I0C (in) "Data inputs", 15 ~{OE} (in) "Output-enable input (active low)", 16 VCC (power)

## JBP28L42MJ
designator U?
512x8 Bi-Polar PROM, J0020A, TUBE; Generic Part Number: JBP28L42; Manufacturer: Texas Instruments; PartNumber: JBP28L42MJ; Voltage Node(Nom)(V): 5; Rating: Military; PackageReference: J0020A; Operating Temperature Range(C): -55 to 125; ComponentLink1Description: Manufacturer URL; ComponentLink1URL: http://www.ti.com/; ComponentLink2Description: Datasheet; ComponentLink2URL: http://www.ti.com/lit/ds/symlink/jbp28l42.pdf
footprint J0020A (DIP, 20-Leads, Body 26.9x7.2mm, Pitch 2.54mm)
pins: 1 A0 (in), 2 A1 (in), 3 A2 (in), 4 A3 (in), 5 A4 (in), 6 Q0 (hiz), 7 Q1 (hiz), 8 Q2 (hiz), 9 Q3 (hiz), 10 GND (power), 11 Q4 (hiz), 12 Q5 (hiz), 13 Q6 (hiz), 14 Q7 (hiz), 15 ~{G} (in), 16 A5 (in), 17 A6 (in), 18 A7 (in), 19 A8 (in), 20 VCC (power)

## JBP28S42MJ
designator U?
512x8 Bi-Polar PROM, J0020A, TUBE; Generic Part Number: JBP28S42; Manufacturer: Texas Instruments; PartNumber: JBP28S42MJ; Voltage Node(Nom)(V): 5; Rating: Military; PackageReference: J0020A; Operating Temperature Range(C): -55 to 125; ComponentLink1Description: Manufacturer URL; ComponentLink1URL: http://www.ti.com/; ComponentLink2Description: Datasheet; ComponentLink2URL: http://www.ti.com/lit/ds/symlink/jbp28s42.pdf
footprint J0020A (DIP, 20-Leads, Body 26.9x7.2mm, Pitch 2.54mm)
pins: 1 A0 (in), 2 A1 (in), 3 A2 (in), 4 A3 (in), 5 A4 (in), 6 Q0 (hiz), 7 Q1 (hiz), 8 Q2 (hiz), 9 Q3 (hiz), 10 GND (power), 11 Q4 (hiz), 12 Q5 (hiz), 13 Q6 (hiz), 14 Q7 (hiz), 15 ~{G} (in), 16 A5 (in), 17 A6 (in), 18 A7 (in), 19 A8 (in), 20 VCC (power)

## JM38510/01203BEA
designator U?
Retriggerable Monostable Multivibrators, J0016A, TUBE; Generic Part Number: SN54123; Manufacturer: Texas Instruments; PartNumber: JM38510/01203BEA; VCC(Min)(V): 4.75; VCC(Max)(V): 5.25; Output Type: TTL; ICC @ Nom Voltage(Max)(mA): 66; Bits(#): 2; Rating: Military; Output Drive (IOL/IOH)(Max)(mA): 16/-0.8; tpd @ Nom Voltage(Max)(ns): 40; DatasheetVersion: SDLS043; PackageReference: J0016A; Input Type: TTL; Operating Temperature Range(C): -55 to 125; Technology Family: TTL; ComponentLink1Description: Manufacturer URL; ComponentLink1URL: http://www.ti.com/; ComponentLink2Description: Datasheet; ComponentLink2URL: http://www.ti.com/lit/ds/symlink/sn54123.pdf; ComponentLink3Description: Package Specification; ComponentLink3URL: http://www.ti.com/lit/ml/mcer002d/mcer002d.pdf
footprint J0016A (DIP, 16-Leads, Body 21.35x7.2mm, Pitch 2.54mm)
part A pins: 1 1A (in), 2 1B (in), 3 1~{CLR} (in), 4 1~{Q} (out), 13 1Q (out), 14 1CEXT, 15 1REXT/CEXT
part B pins: 5 2Q (out), 6 2CEXT, 7 2REXT/CEXT, 9 2A (in), 10 2B (in), 11 2~{CLR} (in), 12 2~{Q} (out)
part C pins: 8 GND (power), 16 VCC (power)

## JM38510/01401BKA
designator U?
Data Selectors/Multiplexers, W0024A, TUBE; Generic Part Number: SN54150; Manufacturer: Texas Instruments; PartNumber: JM38510/01401BKA; VCC(Min)(V): 4.5; VCC(Max)(V): 5.5; Rating: Military; Technology Family: TTL; Schmitt Trigger: No; DatasheetVersion: SDLS054; PackageReference: W0024A; Operating Temperature Range(C): -55 to 125; ComponentLink1Description: Manufacturer URL; ComponentLink1URL: http://www.ti.com/; ComponentLink2Description: Datasheet; ComponentLink2URL: http://www.ti.com/lit/ds/symlink/sn54150.pdf; ComponentLink3Description: Package Specification; ComponentLink3URL: http://www.ti.com/lit/ml/mcfp006d/mcfp006d.pdf
footprint W0024A_N (CFP, 24-Leads, Body 16.26x9.53mm, Pitch 1.27mm, IPC Medium Density)
footprint W0024A_M (CFP, 24-Leads, Body 16.26x9.53mm, Pitch 1.27mm, IPC Low Density)
footprint W0024A_L (CFP, 24-Leads, Body 16.26x9.53mm, Pitch 1.27mm, IPC High Density)
pins: 1 E7 (in), 2 E6 (in), 3 E5 (in), 4 E4 (in), 5 E3 (in), 6 E2 (in), 7 E1 (in), 8 E0 (in), 9 ~{G} (in), 10 ~{W} (out), 11 D (in), 12 GND (power), 13 C (in), 14 B (in), 15 A (in), 16 E15 (in), 17 E14 (in), 18 E13 (in), 19 E12 (in), 20 E11 (in), 21 E10 (in), 22 E9 (in), 23 E8 (in), 24 VCC (power)

## JM38510/05651BEA
designator U?
CMOS Decade Counter with 10 Decoded Outputs, J0016A, TUBE; Generic Part Number: CD4017B-MIL; Manufacturer: Texas Instruments; PartNumber: JM38510/05651BEA; VCC(Max)(V): 18; VCC(Min)(V): 3; Inputs: 1; ICC @ Nom Voltage(Max)(mA): 0.03; Bits(#): 10; F @ Nom Voltage(Max)(Mhz): 8; Rating: Military; Technology Family: CD4000; Schmitt Trigger: No; Output Drive (IOL/IOH)(Max)(mA): 1.5/-1.5; tpd @ Nom Voltage(Max)(ns): 270; DatasheetVersion: SCHS027C; PackageReference: J0016A; Output Type: CMOS; Function: Counter; Input Type: CMOS; Operating Temperature Range(C): -55 to 125; Type: Decade; Voltage(Nom)(V): 10; ComponentLink1Description: Manufacturer URL; ComponentLink1URL: http://www.ti.com/; ComponentLink2Description: Datasheet; ComponentLink2URL: http://www.ti.com/lit/ds/symlink/cd4017b-mil.pdf; ComponentLink3Description: Package Specification; ComponentLink3URL: http://www.ti.com/lit/ml/mcer002d/mcer002d.pdf
footprint J0016A (DIP, 16-Leads, Body 21.35x7.2mm, Pitch 2.54mm)
pins: 1 5 (out), 2 1 (out), 3 0 (out), 4 2 (out), 5 6 (out), 6 7 (out), 7 3 (out), 8 VSS (power), 9 8 (out), 10 4 (out), 11 9 (out), 12 CARRY OUT (out), 13 CLK INH (in), 14 CLK (in), 15 RESET (in), 16 VDD (power)

## JM38510/05652BEA
designator U?
CMOS Presettable Divide-By-N Counter, J0016A, TUBE; Generic Part Number: CD4018B-MIL; Manufacturer: Texas Instruments; PartNumber: JM38510/05652BEA; VCC(Max)(V): 18; VCC(Min)(V): 3; Inputs: 1; ICC @ Nom Voltage(Max)(mA): 0.03; Bits(#): 5; F @ Nom Voltage(Max)(Mhz): 8; Rating: Military; Technology Family: CD4000; Voltage(Nom)(V): 10; Schmitt Trigger: No; Output Drive (IOL/IOH)(Max)(mA): 1.5/-1.5; tpd @ Nom Voltage(Max)(ns): 180; DatasheetVersion: SCHS028C; PackageReference: J0016A; Output Type: CMOS; Function: Counter; Input Type: CMOS; Operating Temperature Range(C): -55 to 125; Type: Decade; ComponentLink1Description: Manufacturer URL; ComponentLink1URL: http://www.ti.com/; ComponentLink2Description: Datasheet; ComponentLink2URL: http://www.ti.com/lit/ds/symlink/cd4018b-mil.pdf; ComponentLink3Description: Package Specification; ComponentLink3URL: http://www.ti.com/lit/ml/mcer002d/mcer002d.pdf
footprint J0016A (DIP, 16-Leads, Body 21.35x7.2mm, Pitch 2.54mm)
pins: 1 DATA (in), 2 JAM 1 (in), 3 JAM 2 (in), 4 ~{Q2} (out), 5 ~{Q1} (out), 6 ~{Q3} (out), 7 JAM 3 (in), 8 VSS (power), 9 JAM 4 (in), 10 PRESET EN (in), 11 ~{Q4} (out), 12 JAM 5 (in), 13 ~{Q5} (out), 14 CLK (in), 15 RESET (in), 16 VDD (power)

## JM38510/05653BEA
designator U?
CMOS 14-Stage Ripple-Carry Binary Counter/Divider, J0016A, TUBE; Generic Part Number: CD4020B-MIL; Manufacturer: Texas Instruments; PartNumber: JM38510/05653BEA; VCC(Max)(V): 18; VCC(Min)(V): 3; Inputs: 1; ICC @ Nom Voltage(Max)(mA): 0.03; Bits(#): 12; F @ Nom Voltage(Max)(Mhz): 8; Rating: Military; Technology Family: CD4000; Voltage(Nom)(V): 10; Schmitt Trigger: No; Output Drive (IOL/IOH)(Max)(mA): 1.5/-1.5; tpd @ Nom Voltage(Max)(ns): 160; DatasheetVersion: SCHS030D; PackageReference: J0016A; Output Type: CMOS; Function: Counter; Input Type: CMOS; Operating Temperature Range(C): -55 to 125; Type: Binary; ComponentLink1Description: Manufacturer URL; ComponentLink1URL: http://www.ti.com/; ComponentLink2Description: Datasheet; ComponentLink2URL: http://www.ti.com/lit/ds/symlink/cd4020b-mil.pdf; ComponentLink3Description: Package Specification; ComponentLink3URL: http://www.ti.com/lit/ml/mcer002d/mcer002d.pdf
footprint J0016A (DIP, 16-Leads, Body 21.35x7.2mm, Pitch 2.54mm)
pins: 1 Q12 (out), 2 Q13 (out), 3 Q14 (out), 4 Q6 (out), 5 Q5 (out), 6 Q7 (out), 7 Q4 (out), 8 VSS (power), 9 Q1 (out), 10 Φ (in), 11 RESET (in), 12 Q9 (out), 13 Q8 (out), 14 Q10 (out), 15 Q11 (out), 16 VDD (power)

## JM38510/05655BCA
designator U?
CMOS 7-Stage Ripple-Carry Binary Counter/Divider, J0014A, TUBE; Generic Part Number: CD4024B-MIL; Manufacturer: Texas Instruments; PartNumber: JM38510/05655BCA; VCC(Max)(V): 18; VCC(Min)(V): 3; Inputs: 1; ICC @ Nom Voltage(Max)(mA): 0.03; Bits(#): 12; F @ Nom Voltage(Max)(Mhz): 8; Rating: Military; Technology Family: CD4000; Voltage(Nom)(V): 10; Schmitt Trigger: No; Output Drive (IOL/IOH)(Max)(mA): 1.5/-1.5; tpd @ Nom Voltage(Max)(ns): 160; DatasheetVersion: SCHS030D; PackageReference: J0014A; Output Type: CMOS; Function: Counter; Input Type: CMOS; Operating Temperature Range(C): -55 to 125; Type: Binary; ComponentLink1Description: Manufacturer URL; ComponentLink1URL: http://www.ti.com/; ComponentLink2Description: Datasheet; ComponentLink2URL: http://www.ti.com/lit/ds/symlink/cd4024b-mil.pdf; ComponentLink3Description: Package Specification; ComponentLink3URL: http://www.ti.com/lit/ml/mcer002d/mcer002d.pdf
footprint J0014A (DIP, 14-Leads, Body 19.95x7.2mm, Pitch 2.54mm)
pins: 1 Φ (in), 2 RESET (in), 3 Q7 (out), 4 Q6 (out), 5 Q5 (out), 6 Q4 (out), 7 VSS (power), 8 NC, 9 Q3 (out), 10 NC, 11 Q2 (out), 12 Q1 (out), 13 NC, 14 VDD (power)

## JM38510/07701BEA
designator U?
3-Line To 8-Line Decoders/Demultiplexers, J0016A, TUBE; Generic Part Number: SN54S138; Manufacturer: Texas Instruments; PartNumber: JM38510/07701BEA; Rating: Military; Technology Family: S; Schmitt Trigger: No; DatasheetVersion: SDLS014; PackageReference: J0016A; Operating Temperature Range(C): -55 to 125; ComponentLink1Description: Manufacturer URL; ComponentLink1URL: http://www.ti.com/; ComponentLink2Description: Datasheet; ComponentLink2URL: http://www.ti.com/lit/ds/symlink/sn54s138.pdf; ComponentLink3Description: Package Specification; ComponentLink3URL: http://www.ti.com/lit/ml/mcer002d/mcer002d.pdf
footprint J0016A (DIP, 16-Leads, Body 21.35x7.2mm, Pitch 2.54mm)
pins: 1 A (in), 2 B (in), 3 C (in), 4 ~{G}2A (in), 5 ~{G}2B (in), 6 G1 (in), 7 ~{Y7} (out), 8 GND (power), 9 ~{Y6} (out), 10 ~{Y5} (out), 11 ~{Y4} (out), 12 ~{Y3} (out), 13 ~{Y2} (out), 14 ~{Y1} (out), 15 ~{Y0} (out), 16 VCC (power)

## JM38510/07701BFA
designator U?
3-Line To 8-Line Decoders/Demultiplexers, W0016A, TUBE; Generic Part Number: SN54S138; Manufacturer: Texas Instruments; PartNumber: JM38510/07701BFA; Rating: Military; Technology Family: S; Schmitt Trigger: No; DatasheetVersion: SDLS014; PackageReference: W0016A; Operating Temperature Range(C): -55 to 125; ComponentLink1Description: Manufacturer URL; ComponentLink1URL: http://www.ti.com/; ComponentLink2Description: Datasheet; ComponentLink2URL: http://www.ti.com/lit/ds/symlink/sn54s138.pdf; ComponentLink3Description: Package Specification; ComponentLink3URL: http://www.ti.com/lit/ml/mcfp004c/mcfp004c.pdf
footprint W0016A_N (CFP, 16-Leads, Body 10.92x7.24mm, Pitch 1.27mm, IPC Medium Density)
footprint W0016A_M (CFP, 16-Leads, Body 10.92x7.24mm, Pitch 1.27mm, IPC Low Density)
footprint W0016A_L (CFP, 16-Leads, Body 10.92x7.24mm, Pitch 1.27mm, IPC High Density)
pins: 1 A (in), 2 B (in), 3 C (in), 4 ~{G}2A (in), 5 ~{G}2B (in), 6 G1 (in), 7 ~{Y7} (out), 8 GND (power), 9 ~{Y6} (out), 10 ~{Y5} (out), 11 ~{Y4} (out), 12 ~{Y3} (out), 13 ~{Y2} (out), 14 ~{Y1} (out), 15 ~{Y0} (out), 16 VCC (power)

## JM38510/07801BJA
designator U?
Arithmetic Logic Units/Function Generators, J0024A, TUBE; Generic Part Number: SN54S181; Manufacturer: Texas Instruments; PartNumber: JM38510/07801BJA; Rating: Military; Technology Family: S; DatasheetVersion: SDLS136; PackageReference: J0024A; Operating Temperature Range(C): -55 to 125; ComponentLink1Description: Manufacturer URL; ComponentLink1URL: http://www.ti.com/; ComponentLink2Description: Datasheet; ComponentLink2URL: http://www.ti.com/lit/ds/symlink/sn54s181.pdf; ComponentLink3Description: Package Specification; ComponentLink3URL: http://www.ti.com/lit/ml/mcer002d/mcer002d.pdf
footprint J0024A (DIP, 24-Leads, Body 32.15x14.85mm, Pitch 2.54mm)
pins: 1 ~{B}0 (in), 2 ~{A}0 (in), 3 S3 (in), 4 S2 (in), 5 S1 (in), 6 S0 (in), 7 CN (in), 8 M (in), 9 ~{F}0 (out), 10 ~{F}1 (out), 11 ~{F}2 (out), 12 GND (power), 13 ~{F}3 (out), 14 A=B (oc), 15 ~{P} (out), 16 CN+4 (out), 17 ~{G} (out), 18 ~{B}3 (in), 19 ~{A}3 (in), 20 ~{B}2 (in), 21 ~{A}2 (in), 22 ~{B}1 (in), 23 ~{A}1 (in), 24 VCC (power)

## JM38510/07802BEA
designator U?
Look-Ahead Carry Generators, J0016A, TUBE; Generic Part Number: SN54S182; Manufacturer: Texas Instruments; PartNumber: JM38510/07802BEA; Rating: Military; Technology Family: S; DatasheetVersion: SDLS206; PackageReference: J0016A; Operating Temperature Range(C): -55 to 125; ComponentLink1Description: Manufacturer URL; ComponentLink1URL: http://www.ti.com/; ComponentLink2Description: Datasheet; ComponentLink2URL: http://www.ti.com/lit/ds/symlink/sn54s182.pdf; ComponentLink3Description: Package Specification; ComponentLink3URL: http://www.ti.com/lit/ml/mcer002d/mcer002d.pdf
footprint J0016A (DIP, 16-Leads, Body 21.35x7.2mm, Pitch 2.54mm)
pins: 1 ~{G}1 (in), 2 ~{P}1 (in), 3 ~{G}0 (in), 4 ~{P}0 (in), 5 ~{G}3 (in), 6 ~{P}3 (in), 7 ~{P} (out), 8 GND (power), 9 CN+Z (out), 10 ~{G} (out), 11 CN+Y (out), 12 CN+X (out), 13 CN (in), 14 ~{G}2 (in), 15 ~{P}2 (in), 16 VCC (power)

## JM38510/07901BEA
designator U?
Data Selectors/Multiplexers, J0016A, TUBE; Generic Part Number: SN54S151; Manufacturer: Texas Instruments; PartNumber: JM38510/07901BEA; VCC(Min)(V): 4.5; VCC(Max)(V): 5.5; Rating: Military; Technology Family: S; Schmitt Trigger: No; DatasheetVersion: SDLS054; PackageReference: J0016A; Operating Temperature Range(C): -55 to 125; ComponentLink1Description: Manufacturer URL; ComponentLink1URL: http://www.ti.com/; ComponentLink2Description: Datasheet; ComponentLink2URL: http://www.ti.com/lit/ds/symlink/sn54s151.pdf; ComponentLink3Description: Package Specification; ComponentLink3URL: http://www.ti.com/lit/ml/mcer002d/mcer002d.pdf
footprint J0016A (DIP, 16-Leads, Body 21.35x7.2mm, Pitch 2.54mm)
pins: 1 D3 (in), 2 D2 (in), 3 D1 (in), 4 D0 (in), 5 Y (out), 6 ~{W} (out), 7 ~{G} (in), 8 GND (power), 9 C (in), 10 B (in), 11 A (in), 12 D7 (in), 13 D6 (in), 14 D5 (in), 15 D4 (in), 16 VCC (power)

## JM38510/07901BFA
designator U?
Data Selectors/Multiplexers, W0016A, TUBE; Generic Part Number: SN54S151; Manufacturer: Texas Instruments; PartNumber: JM38510/07901BFA; VCC(Min)(V): 4.5; VCC(Max)(V): 5.5; Rating: Military; Technology Family: S; Schmitt Trigger: No; DatasheetVersion: SDLS054; PackageReference: W0016A; Operating Temperature Range(C): -55 to 125; ComponentLink1Description: Manufacturer URL; ComponentLink1URL: http://www.ti.com/; ComponentLink2Description: Datasheet; ComponentLink2URL: http://www.ti.com/lit/ds/symlink/sn54s151.pdf; ComponentLink3Description: Package Specification; ComponentLink3URL: http://www.ti.com/lit/ml/mcfp004c/mcfp004c.pdf
footprint W0016A_N (CFP, 16-Leads, Body 10.92x7.24mm, Pitch 1.27mm, IPC Medium Density)
footprint W0016A_M (CFP, 16-Leads, Body 10.92x7.24mm, Pitch 1.27mm, IPC Low Density)
footprint W0016A_L (CFP, 16-Leads, Body 10.92x7.24mm, Pitch 1.27mm, IPC High Density)
pins: 1 D3 (in), 2 D2 (in), 3 D1 (in), 4 D0 (in), 5 Y (out), 6 ~{W} (out), 7 ~{G} (in), 8 GND (power), 9 C (in), 10 B (in), 11 A (in), 12 D7 (in), 13 D6 (in), 14 D5 (in), 15 D4 (in), 16 VCC (power)

## JM38510/07903BEA
designator U?
Quadruple 2-Line To 1-Line Data Selectors/Multiplexers, J0016A, TUBE; Generic Part Number: SN54S157; Manufacturer: Texas Instruments; PartNumber: JM38510/07903BEA; VCC(Min)(V): 4.5; VCC(Max)(V): 5.5; Rating: Military; Technology Family: S; Schmitt Trigger: No; DatasheetVersion: SDLS058; PackageReference: J0016A; Operating Temperature Range(C): -55 to 125; ComponentLink1Description: Manufacturer URL; ComponentLink1URL: http://www.ti.com/; ComponentLink2Description: Datasheet; ComponentLink2URL: http://www.ti.com/lit/ds/symlink/sn54s157.pdf; ComponentLink3Description: Package Specification; ComponentLink3URL: http://www.ti.com/lit/ml/mcer002d/mcer002d.pdf
footprint J0016A (DIP, 16-Leads, Body 21.35x7.2mm, Pitch 2.54mm)
pins: 1 ~{A}/B (in), 2 1A (in), 3 1B (in), 4 1Y (out), 5 2A (in), 6 2B (in), 7 2Y (out), 8 GND (power), 9 3Y (out), 10 3B (in), 11 3A (in), 12 4Y (out), 13 4B (in), 14 4A (in), 15 ~{G} (in), 16 VCC (power)